# EAGLE library part MSP430F122 (library 1_USER)
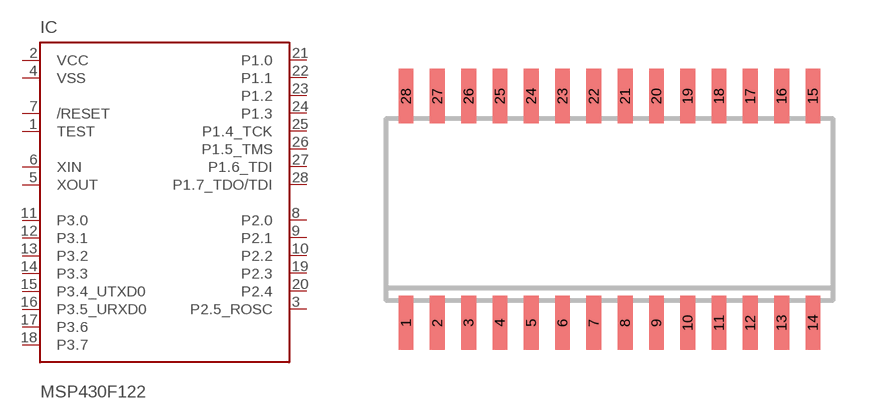
[diagram p6: symbol with the pads of SO28W; footprint SO28W]

Designator prefix IC

## MSP430F122  [SO28W]
1  TEST  in
2  VCC  pwr
3  P2.5_ROSC
4  VSS  pwr
5  XOUT
6  XIN  in
7  /RESET  in
8  P2.0
9  P2.1
10  P2.2
11  P3.0
12  P3.1
13  P3.2
14  P3.3
15  P3.4_UTXD0
16  P3.5_URXD0
17  P3.6
18  P3.7
19  P2.3
20  P2.4
21  P1.0
22  P1.1
23  P1.2
24  P1.3
25  P1.4_TCK
26  P1.5_TMS
27  P1.6_TDI
28  P1.7_TDO/TDI

## Footprint SO28W (pad centres in mm)
smd 0.6 x 2.2: 1 -8.565,-4.79; 2 -7.295,-4.79; 3 -6.025,-4.79; 4 -4.755,-4.79; 5 -3.485,-4.79; 6 -2.215,-4.79; 7 -0.945,-4.79; 8 0.325,-4.79; 9 1.595,-4.79; 10 2.865,-4.79; 11 4.135,-4.79; 12 5.405,-4.79; 13 6.675,-4.79; 14 7.945,-4.79; 15 7.945,4.41; 16 6.675,4.41; 17 5.405,4.41; 18 4.135,4.41; 19 2.865,4.41; 20 1.595,4.41; 21 0.325,4.41; 22 -0.945,4.41; 23 -2.215,4.41; 24 -3.485,4.41; 25 -4.755,4.41; 26 -6.025,4.41; 27 -7.295,4.41; 28 -8.565,4.41